# EAGLE library part MD08S (library con-yamaichi)
YAMAICHI CONNECTOR
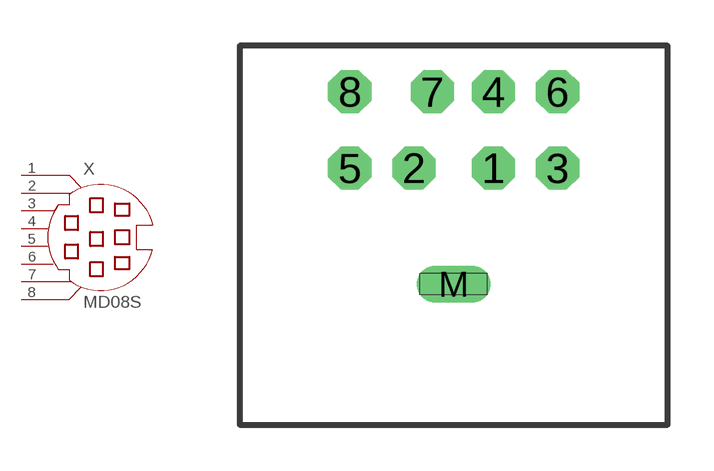
[diagram p4: symbol with the pads of MDIN08S; footprint MDIN08S]

Designator prefix X

## MD08S (OC_FARNELL: unknown; OC_NEWARK: unknown)  [MDIN08S]
1  1  pas
2  2  pas
3  3  pas
4  4  pas
5  5  pas
6  6  pas
7  7  pas
8  8  pas

## Footprint MDIN08S (pad centres in mm)
Mini Din YAMAICHI CONNECTOR
drill 0.9 octagon: 1 1.3,8.5; 2 -1.3,8.5; 3 3.4,8.5; 4 1.3,11; 5 -3.4,8.5; 6 3.4,11; 7 -0.7,11; 8 -3.4,11
drill 0.7 long: M 0,4.7